# Altium schematic symbol library BSS316N.SchLib: 1 symbol
Pins are listed as number, name and electrical type; pins without a type are passive.

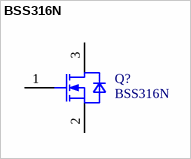
[diagram p0: symbol BSS316N]

## BSS316N
designator Q?
Insulated-Gate Field-Effect Transistor (IGFET), N-Channel, Enhancement, Body Diode, Pin 1 Gate, 2 Source, 3 Drain, 3 Pins; Manufacturer: Infineon Technologies; ManufacturerPartNumber: BSS316N; PackageReference: PG-SOT23-3-5
footprint SOT95P260X110-3N (SOT23, 3-Leads, Body 2.90x2.60mm, Pitch 0.95mm, IPC Medium Density)
pins: 1 GATE, 2 SOURCE, 3 DRAIN